# EAGLE library part AT24C128C-SSHM-T (library AT24C128C-SSHM-T)
Two-wire Serial EEPROM Check prices <https://pricing.snapeda.com/parts/AT24C128C-SSHM-T/Microchip/view-part?ref=eda>
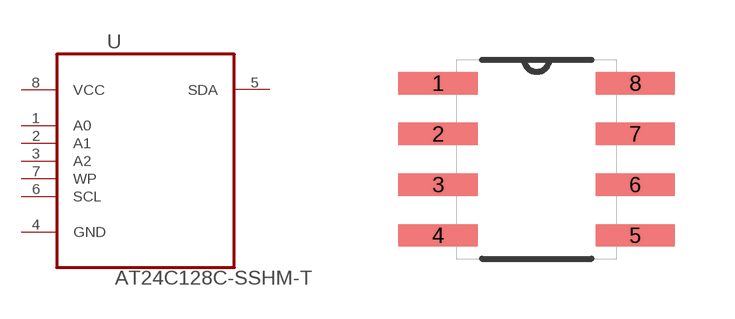
[diagram p0: symbol with the pads of SOIC127P600X175-8N; footprint SOIC127P600X175-8N]

Designator prefix U

## AT24C128C-SSHM-T (Availability: Not in stock; Description: EEPROM Memory IC 128Kb (16K x 8) I²C 1MHz 550ns 8-SOIC; MF: Microchip; MP: AT24C128C-SSHM-T; Package: SO-8 Microchip; Price: None)  [SOIC127P600X175-8N]
1  A0  in
2  A1  in
3  A2  in
4  GND  pas
5  SDA
6  SCL  in
7  WP  in
8  VCC  pwr

## Footprint SOIC127P600X175-8N (pad centres in mm)
smd 1.981 x 0.559: 1 -2.464,1.905; 2 -2.464,0.635; 3 -2.464,-0.635; 4 -2.464,-1.905; 5 2.464,-1.905; 6 2.464,-0.635; 7 2.464,0.635; 8 2.464,1.905